# EAGLE library part FDS9945 (library On Semiconductor)
FDS9945 60V N-Channel PowerTrench MOSFET These N Channel Logic Level MOSFET have been designed specifically to improve the overall efficiency of DC/DC converters using either synchronous or conventional switching PWM controllers. The MOSFET feature faster switching and lower gate charge than other MOSFET with comparable RDS(on) specifications. The result is a MOSFET that is easy and safer to drive (even at very high frequencies), and DC/DC power supply designs with higher overall efficiency. Location: MOSFET/N Channel
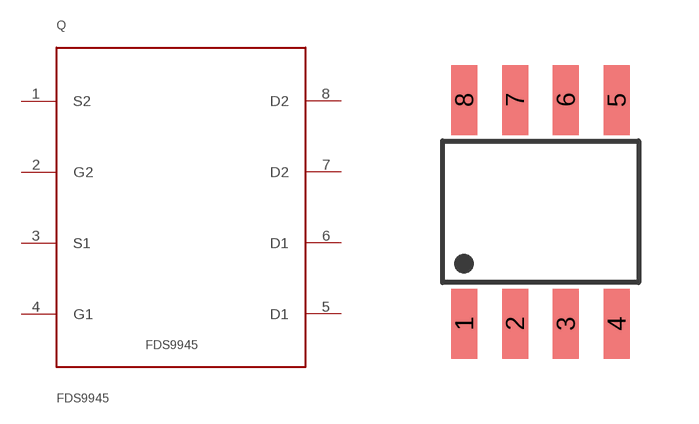
[diagram p0: symbol with the pads of SOIC8; footprint SOIC8]

Designator prefix Q

## FDS9945SMD  [SOIC8]
1  S2
2  G2
3  S1
4  G1
5  D1
6  D1
7  D2
8  D2

## Footprint SOIC8 (pad centres in mm)
smd 0.65 x 1.75: 1 -1.905,-2.8; 2 -0.635,-2.8; 3 0.635,-2.8; 4 1.905,-2.8; 5 1.905,2.8; 6 0.635,2.8; 7 -0.635,2.8; 8 -1.905,2.8